# EAGLE library part AT97SC3205T (library eric_personal_parts)
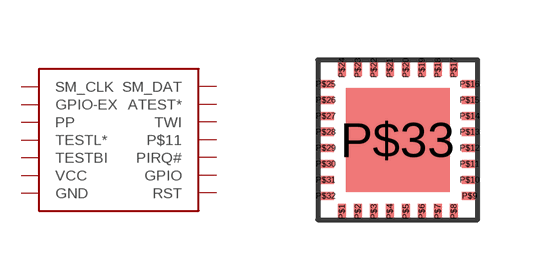
[diagram p1: symbol with the pads of QFN-32_4X4; footprint QFN-32_4X4]

Designator prefix -

## AT97SC3205T  [QFN-32_4X4]
P$1  ATEST*
P$2  GND
P$3  GPIO
P$4  GPIO-EX
P$5  P$11
P$6  PIRQ#
P$7  PP
P$8  RST
P$9  SM_CLK
P$10  SM_DAT
P$11  TESTBI
P$12  TESTL*
P$13  TWI
P$14  VCC

## Footprint QFN-32_4X4 (pad centres in mm)
smd 0.2 x 0.4: P$1 0.6,0.2; P$2 1,0.2; P$3 1.4,0.2; P$4 1.8,0.2; P$5 2.2,0.2; P$6 2.6,0.2; P$7 3,0.2; P$8 3.4,0.2; P$17 3.4,3.8; P$18 3,3.8; P$19 2.6,3.8; P$20 2.2,3.8; P$21 1.8,3.8; P$22 1.4,3.8; P$23 1,3.8; P$24 0.6,3.8
smd 0.4 x 0.2: P$9 3.8,0.6; P$10 3.8,1; P$11 3.8,1.4; P$12 3.8,1.8; P$13 3.8,2.2; P$14 3.8,2.6; P$15 3.8,3; P$16 3.8,3.4; P$25 0.2,3.4; P$26 0.2,3; P$27 0.2,2.6; P$28 0.2,2.2; P$29 0.2,1.8; P$30 0.2,1.4; P$31 0.2,1; P$32 0.2,0.6
smd 2.6 x 2.6: P$33 2,2